# Altium footprint library CAP10MMRP.PcbLib: 1 footprints
Each footprint in its own frame and in the unit in brackets; x right, y up, seen from the top. Pads: shape width x height; smd on the part's side, far side on the other; paste and mask are expansions set on the pad; w line width, h text height; cw(c..) or ccw(c..) is an arc to the next point about the centre after c.
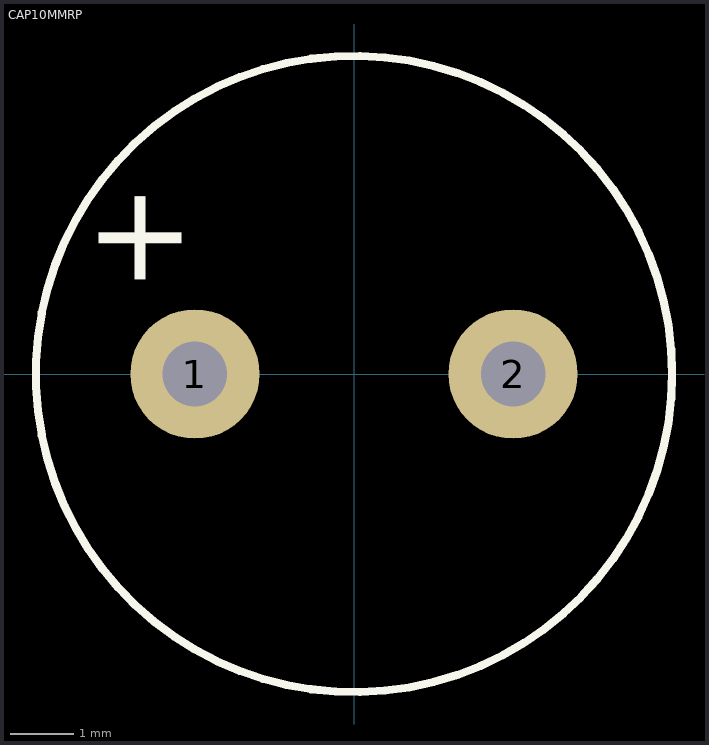
[diagram p0: the footprint, top view; thin cyan lines are the x and y axes]

## CAP10MMRP [mil]
pads (2):
  round 80 hole 40: 1(-98.43,0) 2(98.43,0)
Top Overlay:
  circle w5: c0,0 r196.85
  text "+" at -106.5,49.5 h60
3D body "User Library-Cap electro 10x16x5_0mm.step": height 650.61, standoff -147.28, extent -197.84,-197.84 197.86,197.85